# EAGLE library part 66200611122 (library Wuerth_Elektronik_eiCan_08_Micro_Power_Connectors)
WR-MPC3 3.00mm Male Single Row Vertical Header, 6 Pins
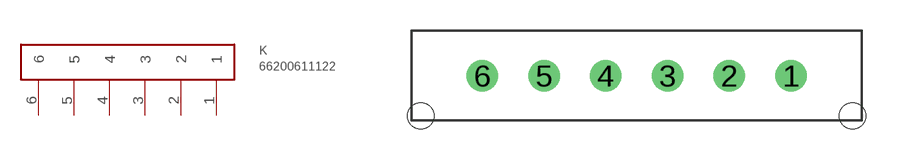
[diagram p70: symbol with the pads of 66200611122; footprint 66200611122]

Designator prefix K

## 66200611122  [66200611122]
1  1
2  2
3  3
4  4
5  5
6  6

## Footprint 66200611122 (pad centres in mm)
WR-MPC3 3.00mm Male Single Row Vertical Header, 6 Pins
drill 1.02 round: 1 1.5,0; 2 -1.5,0; 3 -4.5,0; 4 -7.5,0; 5 -10.5,0; 6 -13.5,0
hole 1.27 at 4.5,-1.96
hole 1.27 at -16.5,-1.96